# Altium footprint library RESC1106X84N.PcbLib: 1 footprints
Each footprint in its own frame and in the unit in brackets; x right, y up, seen from the top. Pads: shape width x height; smd on the part's side, far side on the other; paste and mask are expansions set on the pad; w line width, h text height; cw(c..) or ccw(c..) is an arc to the next point about the centre after c.
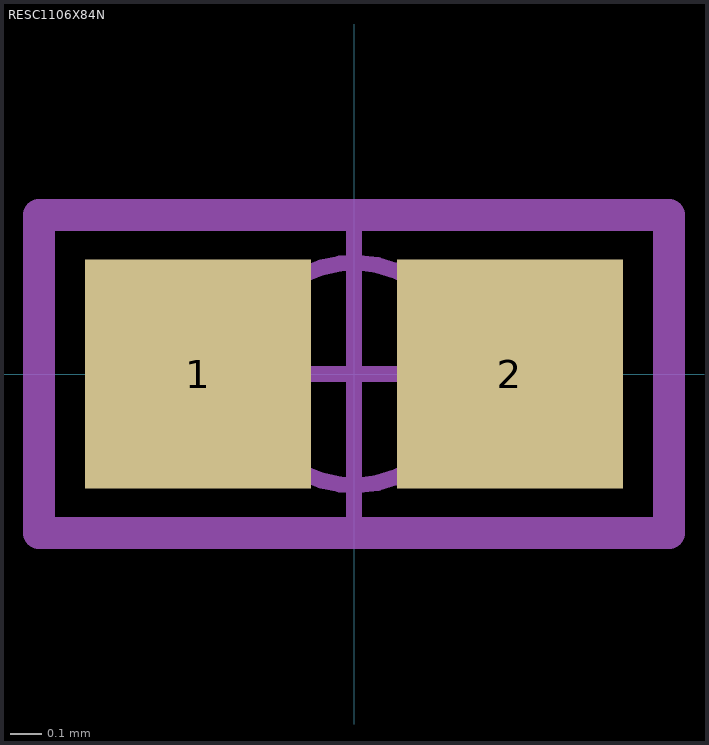
[diagram p0: the footprint, top view; thin cyan lines are the x and y axes]

## RESC1106X84N [mm] "Chip Resistor, EIA 0402, Metric 1005, Resistor,Chip; 1.061mm L X 0.559mm W X 0.838mm H"
height 0.84
pads (2):
  rect 0.71x0.72 smd: 1(-0.49,0) 2(0.49,0)
Mechanical 14:
  lines w0.1: -0.99,-0.5 0.99,-0.5 0.99,0.5 -0.99,0.5 -0.99,-0.5
Mechanical 15:
  circle w0.05: c0,0 r0.35
  lines w0.05: -0.5,0 0.5,0 ; 0,-0.5 0,0.5 ; -1,-0.51 1,-0.51 1,0.51 -1,0.51 -1,-0.51
3D body "RESC1106X84N.stp": height 0.84, standoff 0, extent -0.525,-0.275 0.525,0.275